# EAGLE library part 431181008816 (library Eagle_Wuerth_Elektronik_Switch)
WS-TSS-5x5 mm SMD Tact Switch with ground terminal, 4 pins
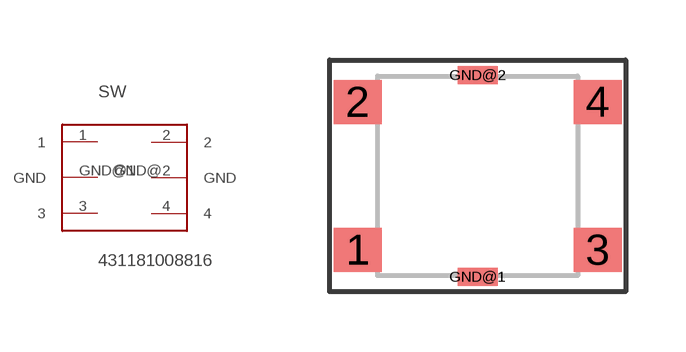
[diagram p134: symbol with the pads of 431181008816; footprint 431181008816]

Designator prefix SW

## 431181008816  [431181008816]
1  1
2  2
3  3
4  4
GND@1  GND
GND@2  GND

## Footprint 431181008816 (pad centres in mm)
WS-TSS-5x5 mm SMD Tact Switch with ground terminal, 4 pins
smd 1.2 x 1.1: 1 -3,-1.85; 2 -3,1.85; 3 3,-1.85; 4 3,1.85
smd 1 x 0.45: GND@1 0,-2.525; GND@2 0,2.525